# Altium integrated library Components.IntLib: 68 symbols
Pins are listed as number, name and electrical type; pins without a type are passive.

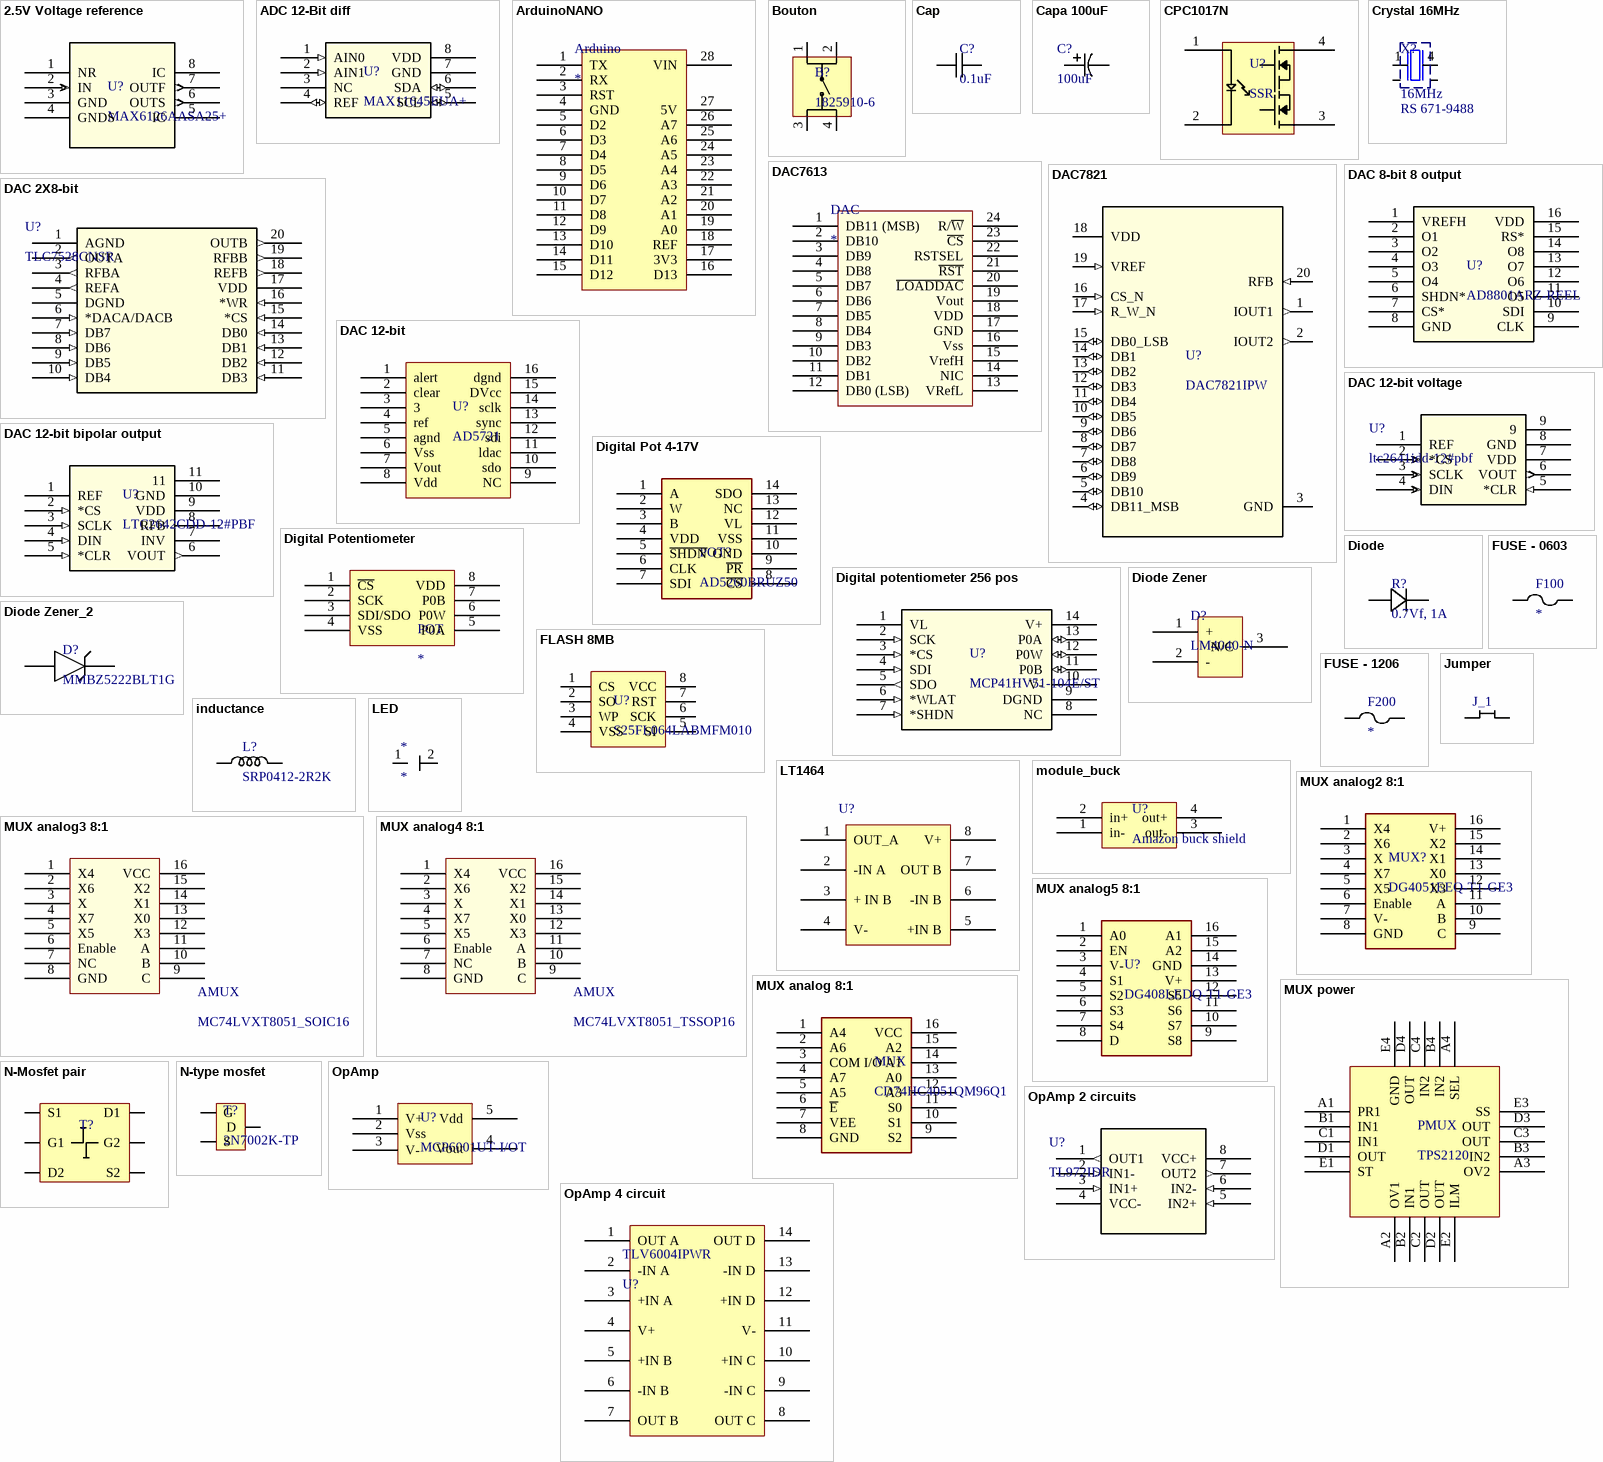
[diagram p0: symbols 2.5V Voltage reference to OpAmp 4 circuit]

## 2.5V Voltage reference
designator U?, comment MAX6126AASA25+
Vendor: Maxim Integrated Products; Built_By: EMA_UL_Team; SourceLibrary: Maxim_2011-10-27; Manufacturer_Part_Number: MAX6126AASA25+; Revision: 3; Copyright: Copyright (C) 2021 Accelerated Designs. All rights reserved; RefDes: RefDes; Type: DEV
footprint SOIC-8
pins: 1 NR, 2 IN (in), 3 GND (power), 4 GNDS (power), 5 IC, 6 OUTS (out), 7 OUTF (out), 8 IC

## ADC 12-Bit diff
designator U?, comment MAX11645EUA+
ADC 12-Bit diff / MAX11645EUA+ / Interface I2C; Vendor: Maxim Integrated Products; Built_By: EMA_UL_Team; SourceLibrary: Maxim_2014-05-21; Manufacturer_Part_Number: MAX11645EUA+; Revision: 2; Copyright: Copyright (C) 2021 Accelerated Designs. All rights reserved; RefDes: RefDes; Type: DEV
footprint TSSOP-8
pins: 1 AIN0 (in), 2 AIN1 (in), 3 NC, 4 REF (io), 5 SCL (io), 6 SDA (io), 7 GND (power), 8 VDD (power)

## ArduinoNANO
designator Arduino
footprint Arduino
footprint Arduino (SIMPLE)
pins: 1 TX, 2 RX, 3 RST, 4 GND, 5 D2, 6 D3, 7 D4, 8 D5, 9 D6, 10 D7, 11 D8, 12 D9, 13 D10, 14 D11, 15 D12, 16 D13, 17 3V3, 18 REF, 19 A0, 20 A1, 21 A2, 22 A3, 23 A4, 24 A5, 25 A6, 26 A7, 27 5V, 28 VIN

## Bouton
designator B?, comment 1825910-6
Tactile Bouton / 1825910-6
footprint Bouton
pins: 1, 2, 3, 4

## Cap
designator C?, comment 0.1uF
footprint 0603-W (0603 - 1608)
footprint 1206
footprint 0805
pins: 1 Vin, 2 Vin

## Capa 100uF
designator C?, comment 100uF
100uF / Part number: 493-2203-1-ND; Manufacturer_Part_Number: UWT1V101MCL1GS; Vendor: Nichicon; Built_By: EMA_UL_Team; SourceLibrary: Nichicon_2011-10-21; Type: DEV; Copyright: Copyright (C) 2018 Accelerated Designs. All rights reserved; RefDes: RefDes
footprint 6.3x7.7_capa_smt
footprint 8mm diametre cap
pins: 1, 2

## CPC1017N
designator U?, comment SSR
Solid State SPST-NO _1 Form A_ 4-SOP _0.150, 3.81mm_; MP: CPC1017N; MF: IXYS Integrated; Package: SOP-4 IXYS; SnapEDA_Link: https://www.snapeda.com/parts/CPC1017N/IXYS%20Integrated%20Circuits%20Division/view-part/345722/?ref=snap; Value: *; Availability: Unavailable; Price: None
footprint 4-pin SOP
pins: 1 +CONTROL, 2 -CONTROL, 3 LOAD1, 4 LOAD2

## Crystal 16MHz
designator X?, comment value 16MHz  RS: RS 671-9488  (hidden comment: AB-16.000MALE-T)
AB-16.000MALE-T / # digikey : 887-1708-1-ND / 12pF; Manufacturer: Aker; Manufacturer Part #: C5S-16.000-12-3030-X; Frequency Stability: +/-30ppm; Creator: R Kanjee; Supplier: RS; RS Stock Nr.: 671-9488; HelpURL: http://za.rs-online.com/web/p/crystal-units/6719488/; Package: 3.2x5mm SMD; Load Capacitance: 12pF
footprint 4-SMD no lead 5mm-3.2mm
pins: 1, 2 Gnd (power), 3 Gnd (power), 4

## DAC7613
designator DAC
12-bit DAC Mid speed / 5V ouput / Voltage buffered / SPI Interface
footprint SSOP (DB) 24
pins: 1 DB11 (MSB), 2 DB10, 3 DB9, 4 DB8, 5 DB7, 6 DB6, 7 DB5, 8 DB4, 9 DB3, 10 DB2, 11 DB1, 12 DB0 (LSB), 13 VRefL, 14 NIC, 15 VrefH, 16 Vss, 17 GND, 18 VDD, 19 Vout, 20 ~{LOADDAC}, 21 ~{RST}, 22 RSTSEL, 23 ~{CS}, 24 R/~{W}

## DAC7821
designator U?, comment DAC7821IPW
12-bit high-speed DAC / DAC7821IPW / Parallel interface / Current - Unbuffered; PartNumber: DAC7821IPWR; Manufacturer: Texas Instruments; CompType: IC; PIN_COUNT: 20; Alternate_PartNumber: DAC7821IPW; PackageReference: PW0020A; MountType: SMT; RoHS: Y; RefDes: RefDes; Type: DEV; Value: Value; Copyright: Copyright (C) 2021 Accelerated Designs. All rights reserved
footprint TSSOP-20
pins: 1 IOUT1 (out), 2 IOUT2 (out), 3 GND (power), 4 DB11_MSB (io), 5 DB10 (io), 6 DB9 (io), 7 DB8 (io), 8 DB7 (io), 9 DB6 (io), 10 DB5 (io), 11 DB4 (io), 12 DB3 (io), 13 DB2 (io), 14 DB1 (io), 15 DB0_LSB (io), 16 CS_N (in), 17 R_W_N (in), 18 VDD (power), 19 VREF (in), 20 RFB (in)

## DAC 2X8-bit
designator U?, comment TLC7528CNSR
8-Bit, 0.1 us Dual MDAC, Parallel Input, Fast Control Signalling for DSP, Easy Micro I/F; Manufacturer: Texas Instruments; INDUSTRY_STD_PKG_TYPE: SO; FAMILY_NAME: PRECISION DAC (=<10MSPS); PIN_COUNT: 20; PACKAGE_DESIGNATOR: NS; Datasheet_URL: http://www.ti.com/lit/gpn/TLC7528; GENERIC_PART_NUMBER: TLC7528; Copyright: Copyright (C) 2018 Accelerated Designs. All rights reserved; RefDes: RefDes; Type: DEV
footprint SOIC-20
pins: 1 AGND (power), 2 OUTA (out), 3 RFBA (out), 4 REFA (out), 5 DGND (power), 6 *DACA/DACB (in), 7 DB7 (in), 8 DB6 (in), 9 DB5 (in), 10 DB4 (in), 11 DB3 (in), 12 DB2 (in), 13 DB1 (in), 14 DB0 (in), 15 *CS (in), 16 *WR (in), 17 VDD (power), 18 REFB (out), 19 RFBB (out), 20 OUTB (out)

## DAC 8-bit 8 output
designator U?, comment AD8801ARZ-REEL
AD8801ARZ-REEL / 8-bit high-speed Voltage DAC / 8 output; Built_By: EMA_UL_Team; Vendor: Analog Devices Inc; SourceLibrary: Analog_2012-01-01_6; Manufacturer_Part_Number: AD8801ARZ-REEL; Copyright: Copyright (C) 2021 Accelerated Designs. All rights reserved; RefDes: RefDes; Type: DEV
footprint SOIC-16
pins: 1 VREFH, 2 O1, 3 O2, 4 O3, 5 O4, 6 SHDN*, 7 CS*, 8 GND, 9 CLK, 10 SDI, 11 O5, 12 O6, 13 O7, 14 O8, 15 RS*, 16 VDD (power)

## DAC 12-bit
designator U?, comment AD5721
AD5721BRUZ / 12 bit DAC mid speed / up to 20V output / Voltage buffered
footprint TSSOP-16
pins: 1 alert, 2 clear, 3, 4 ref, 5 agnd, 6 Vss, 7 Vout, 8 Vdd, 9 NC, 10 sdo, 11 ldac, 12 sdi, 13 sync, 14 sclk, 15 DVcc, 16 dgnd

## DAC 12-bit bipolar output
designator U?, comment LTC2642CDD-12#PBF
DAC voltage 12-bit high speed / LTC2642CDD-12#PBF; Vendor: Linear Technology; Built_By: EMA_UL_Team; SourceLibrary: LinearTech_2016_03_08; Manufacturer_Part_Number: LTC2642CDD-12#PBF; Copyright: Copyright (C) 2021 Accelerated Designs. All rights reserved; RefDes: RefDes; Type: DEV
footprint DFN-10
pins: 1 REF (power), 2 *CS (in), 3 SCLK (in), 4 DIN (in), 5 *CLR (in), 6 VOUT (out), 7 INV, 8 RFB, 9 VDD (power), 10 GND (power), 11

## DAC 12-bit voltage
designator U?, comment ltc2641idd-12#pbf
DAC voltage 12-bit high speed / Ltc2641idd-12#pbf; Vendor: Linear Technology; Built_By: EMA_UL_Team; SourceLibrary: LinearTech_2016_03_08; Manufacturer_Part_Number: ltc2641idd-12#pbf; Copyright: Copyright (C) 2021 Accelerated Designs. All rights reserved; RefDes: RefDes; Type: DEV
footprint DFN-8
pins: 1 REF (power), 2 *CS (in), 3 SCLK (in), 4 DIN (in), 5 *CLR (in), 6 VOUT (out), 7 VDD (power), 8 GND (power), 9

## Digital Pot 4-17V
designator POT?, comment AD5260BRUZ50
AD5260BRUZ50 - Digital potentiometer, 50kOhms,  256 taps, 4-17V
footprint TSSOP-14
pins: 1 A, 2 W, 3 B, 4 VDD, 5 ~{SHDN}, 6 CLK, 7 SDI, 8 ~{CS}, 9 ~{PR}, 10 GND, 11 VSS, 12 VL, 13 NC, 14 SDO

## Digital Potentiometer
designator POT
MCP4132T-503E/SN - Digital potentiometer with SPI control, 75 to 50k
footprint SOIC-8
pins: 1 ~{CS}, 2 SCK, 3 SDI/SDO, 4 VSS, 5 P0A, 6 P0W, 7 P0B, 8 VDD

## Digital potentiometer 256 pos
designator U?, comment MCP41HV51-104E/ST
Potentiometre programmable / Digital potentiometer / 256 taps / version 100K = MCP41HV51-104E/ST / version 50K = MCP41HV51T-503E/ST; Mfr_Name: Microchip; Copyright: Copyright (C) 2021 Ultra Librarian. All rights reserved.; Manufacturer_Part_Number: MCP41HV51-104E/ST; Digi-Key_Part_Number_1: MCP41HV51-104E/ST-ND; RefDes: RefDes; Type: DEV
footprint TSSOP-14
pins: 1 VL (power), 2 SCK (in), 3 *CS (in), 4 SDI (in), 5 SDO (out), 6 *WLAT (in), 7 *SHDN (in), 8 NC, 9 DGND (power), 10 V- (power), 11 P0B (io), 12 P0W (io), 13 P0A (io), 14 V+ (power)

## Diode
designator R?, comment 0.7Vf, 1A
General purpose diode / SS15E-TP
footprint SMAE (Schottky Rectifier Diode Solder Pad Layout)
pins: 1, 2

## Diode Zener
designator D?, comment LM4040-N
Precision shunt voltage reference
footprint SOT-23 (DBZ) 3
pins: 1 +, 2 -, 3 N/C

## Diode Zener_2
designator D?, comment MMBZ5222BLT1G
2.5V nominal / MMBZ5222BLT1GOSCT-ND
footprint SOT-23 (DBZ) 3
pins: 1, 3

## FLASH 8MB
designator U?, comment S25FL064LABMFM010
#pièce : S25FL064LABMFM010 / #digikey : 428-4094-ND
footprint SOIC-8
pins: 1 CS, 2 SO, 3 WP, 4 VSS, 5 SI, 6 SCK, 7 RST, 8 VCC

## FUSE - 0603
designator F100
footprint 0603-W - F (0603 - 1608)
pins: 1 Vin, 2 Vout

## FUSE - 1206
designator F200
footprint 1206-W - F - duplicate (0603 - 1608)
pins: 1 Vin, 2 Vout

## inductance
designator L?, comment SRP0412-2R2K
part number SRP0412-2R2K / 2.2uH
footprint 4.1X4.2mm_inductor
footprint 9.5X8.5mm_inductor
footprint Vertical cylinder 5mm (Thru-Hole; 3 Leads)
pins: 1, 2

## Jumper
designator J_1  (value not drawn)
footprint 0603-N (0603mil - 1608mm)
pins: 1 Vin, 2 Vin

## LED
designator *
footprint LED
pins: 1 Vin, 2 Vout

## LT1464
designator U?, comment OA  (value not drawn)
SOIC-8
footprint LT1464 (SOIC-8)
pins: 1 OUT_A, 2 -IN A, 3 + IN B, 4 V-, 5 +IN B, 6 -IN B, 7 OUT B, 8 V+

## module_buck
designator U?, comment Amazon buck shield
footprint Shield_buck_converter
pins: 1 in-, 2 in+, 3 out-, 4 out+

## MUX analog2 8:1
designator MUX?, comment DG4051EEQ-T1-GE3
DG4051EEQ-T1-GE3 - Analog mux 8:1, 3-16V, On-state resistance 78Ohms
footprint TSSOP-16
pins: 1 X4, 2 X6, 3 X, 4 X7, 5 X5, 6 Enable, 7 V-, 8 GND, 9 C, 10 B, 11 A, 12 X3, 13 X0, 14 X1, 15 X2, 16 V+

## MUX analog3 8:1
designator AMUX, comment MC74LVXT8051_SOIC16
MC74LVXT8051 - AnalogMUX
footprint SOIC-16
pins: 1 X4, 2 X6, 3 X, 4 X7, 5 X5, 6 Enable, 7 NC, 8 GND, 9 C, 10 B, 11 A, 12 X3, 13 X0, 14 X1, 15 X2, 16 VCC

## MUX analog4 8:1
designator AMUX, comment MC74LVXT8051_TSSOP16
MC74LVXT8051 - AnalogMUX
footprint TSSOP-16
pins: 1 X4, 2 X6, 3 X, 4 X7, 5 X5, 6 Enable, 7 NC, 8 GND, 9 C, 10 B, 11 A, 12 X3, 13 X0, 14 X1, 15 X2, 16 VCC

## MUX analog5 8:1
designator U?, comment DG408LEDQ-T1-GE3
DG408LEDQ-T1-GE3 - Analog mux 8:1, 3-16V, On-state resistance 23Ohms
footprint TSSOP-16
pins: 1 A0, 2 EN, 3 V-, 4 S1, 5 S2, 6 S3, 7 S4, 8 D, 9 S8, 10 S7, 11 S6, 12 S5, 13 V+, 14 GND, 15 A2, 16 A1

## MUX analog 8:1
designator MUX, comment CD74HC4051QM96Q1
CD74HC4051QM96Q1 - 8:1 Mux/Demux, 2~6V voltage supply, 25mA through pins, 16-SOIC
footprint SOIC-16
pins: 1 A4, 2 A6, 3 COM I/O, 4 A7, 5 A5, 6 ~{E}, 7 VEE, 8 GND, 9 S2, 10 S1, 11 S0, 12 A3, 13 A0, 14 A1, 15 A2, 16 VCC

## MUX power
designator PMUX, comment TPS2120
Power MUX, 3A max
footprint TPS2120_BGA (PowerMux_3Amax_BGA)
pins: A1 PR1, A2 OV1, A3 OV2, A4 SEL, B1 IN1, B2 IN1, B3 IN2, B4 IN2, C1 IN1, C2 OUT, C3 OUT, C4 IN2, D1 OUT, D2 OUT, D3 OUT, D4 OUT, E1 ST, E2 ILM, E3 SS, E4 GND

## N-Mosfet pair
designator T?, comment SSM6N7002  (value not drawn)
N-Mosfet pair
footprint TSSOP-6 (N-Mosfet pair)
pins: 1 S1, 2 G1, 3 D2, 4 S2, 5 G2, 6 D1

## N-type mosfet
designator T?, comment 2N7002K-TP
N-Channel mosfet / 2N7002K-TP
footprint SOT-23 (DBZ) 3
pins: 1 G, 2 S, 3 D

## OpAmp
designator U?, comment MCP6001UT-I/OT
1 circuit OpAmp / MCP6001UT-I/OT
footprint SOT-23-5
pins: 1 V+, 2 Vss, 3 V-, 4 Vout, 5 Vdd

## OpAmp 2 circuits
designator U?, comment TL972IDR
Output Rail-to-Rail Very-Low-Noise Operational Amplifier; GENERIC_PART_NUMBER: TL972; Vendor: Texas Instruments; PACKAGE_DESIGNATOR: D; PIN_COUNT: 8; FAMILY_NAME: STANDARD LINEAR AMPLIFIER; INDUSTRY_STD_PKG_TYPE: SOIC; Manufacturer_Part_Number: TL972IDR; Datasheet_URL: http://www.ti.com/lit/gpn/TL972; Manufacturer: Texas Instruments; Copyright: Copyright (C) 2018 Accelerated Designs. All rights reserved; RefDes: RefDes; Type: DEV
footprint SOIC-8
pins: 1 OUT1 (out), 2 IN1- (in), 3 IN1+ (in), 4 VCC- (power), 5 IN2+ (in), 6 IN2- (in), 7 OUT2 (out), 8 VCC+ (power)

## OpAmp 4 circuit
designator TLV6004IPWR, comment U?
OpAmp 4 circuit
footprint TSSOP-14
pins: 1 OUT A, 2 -IN A, 3 +IN A, 4 V+, 5 +IN B, 6 -IN B, 7 OUT B, 8 OUT C, 9 -IN C, 10 +IN C, 11 V-, 12 +IN D, 13 -IN D, 14 OUT D

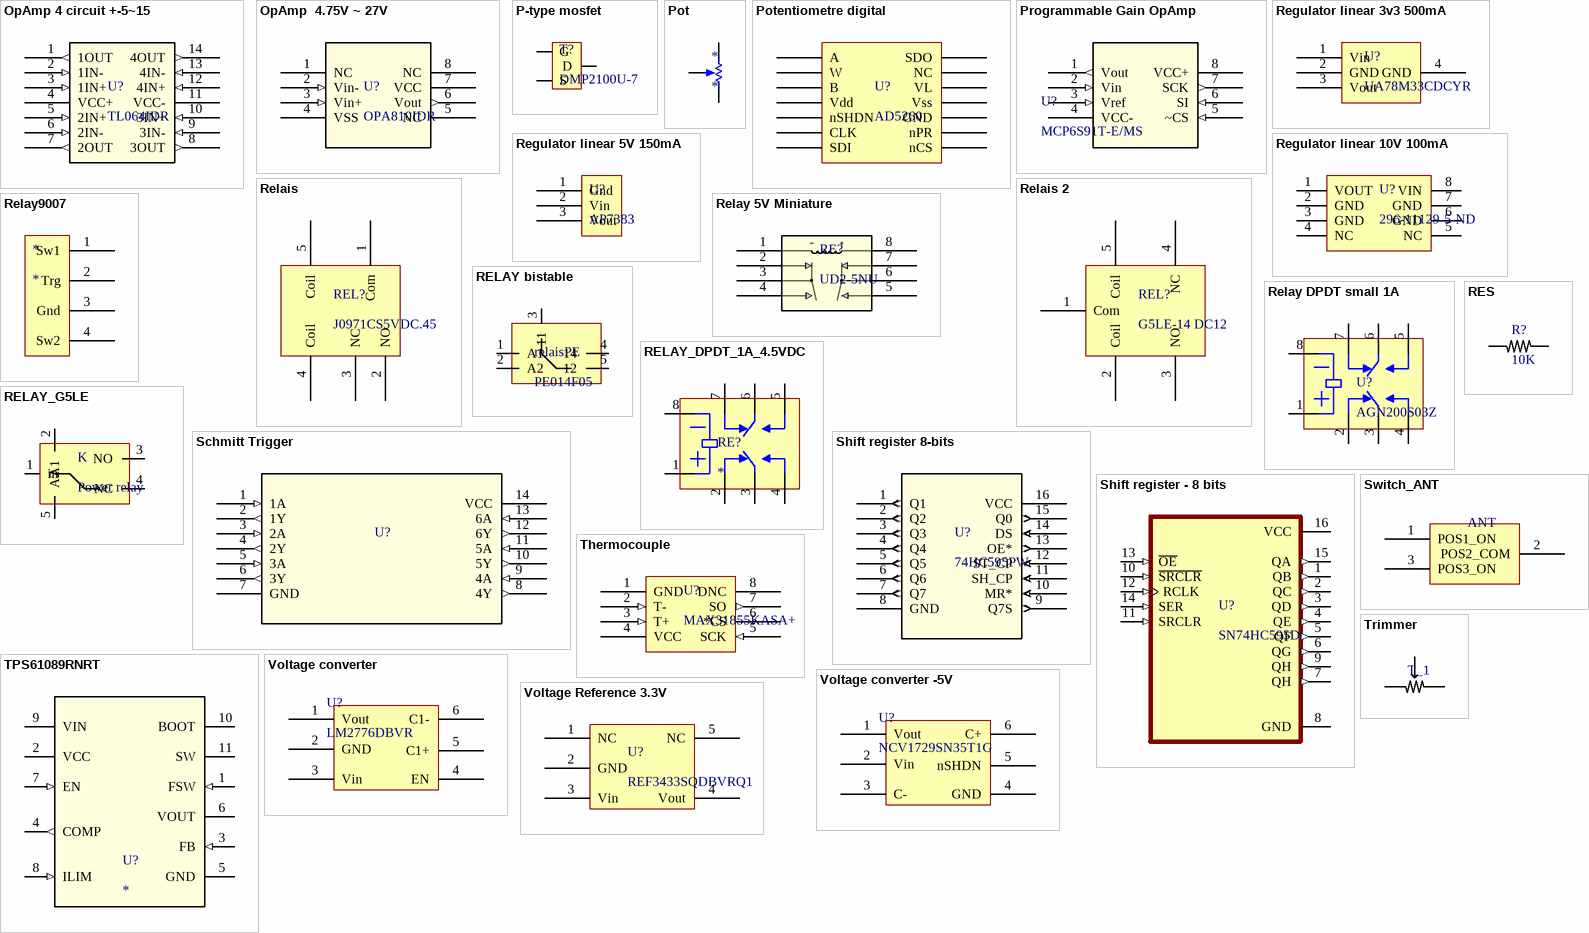
[diagram p1: symbols OpAmp 4 circuit +-5~15 to Voltage Reference 3.3V]

## OpAmp 4 circuit +-5~15
designator U?, comment TL064IDR
TL064IDR / +-5~15 / Quad Low-Power JFET-Input General-Purpose Operational Amplifier; Manufacturer: Texas Instruments; GENERIC_PART_NUMBER: TL064; INDUSTRY_STD_PKG_TYPE: SOIC; FAMILY_NAME: STANDARD LINEAR AMPLIFIER; PIN_COUNT: 14; PACKAGE_DESIGNATOR: D; Datasheet_URL: http://www.ti.com/lit/gpn/TL064; Copyright: Copyright (C) 2021 Accelerated Designs. All rights reserved; RefDes: RefDes; Type: DEV
footprint SOIC-14
pins: 1 1OUT (out), 2 1IN- (in), 3 1IN+ (in), 4 VCC+ (power), 5 2IN+ (in), 6 2IN- (in), 7 2OUT (out), 8 3OUT (out), 9 3IN- (in), 10 3IN+ (in), 11 VCC- (power), 12 4IN+ (in), 13 4IN- (in), 14 4OUT (out)

## OpAmp  4.75V ~ 27V
designator U?, comment OPA810IDR
OPA810IDR / OpAmp Rail-to-Rail / 4.75V ~ 27V supply
footprint SOIC-8
pins: 1 NC, 2 Vin- (in), 3 Vin+ (in), 4 VSS (power), 5 NC, 6 Vout (out), 7 VCC (power), 8 NC

## P-type mosfet
designator T?, comment DMP2100U-7
P-Channel mosfet / DMP2100U-7
footprint SOT-23 (DBZ) 3
pins: 1 G, 2 S, 3 D

## Pot
designator *
footprint 3-Pos_Rect_Pot (Thru-Hole; 3 Leads)
pins: 1, 2, 3

## Potentiometre digital
designator U?, comment AD5260
AD5260BRUZ50
footprint TSSOP-14
pins: 1 A, 2 W, 3 B, 4 Vdd, 5 nSHDN, 6 CLK, 7 SDI, 8 nCS, 9 nPR, 10 GND, 11 Vss, 12 VL, 13 NC, 14 SDO

## Programmable Gain OpAmp
designator U?, comment MCP6S91T-E/MS
Programmable gain OpAmp / MCP6S91T-E/MS
footprint TSSOP-8
pins: 1 Vout (out), 2 Vin (in), 3 Vref (in), 4 VCC- (power), 5 ~CS (in), 6 SI (in), 7 SCK (out), 8 VCC+ (power)

## Regulator linear 3v3 500mA
designator U?, comment UA78M33CDCYR
3.3V lin regulator / 500mA / UA78M33CDCYR
footprint SOT223-4
pins: 1 Vin, 2 GND, 3 Vout, 4 GND

## Regulator linear 5V 150mA
designator U?, comment AP7383
5V lin Regulator / 150mA / AP7383
footprint sot89-3
pins: 1 Gnd, 2 Vin, 3 Vout

## Regulator linear 10V 100mA
designator U?, comment 296-11129-5-ND
10V regulator / UA78L10ACD / 296-11129-5-ND
footprint SOIC-8
pins: 1 VOUT, 2 GND, 3 GND, 4 NC, 5 NC, 6 GND, 7 GND, 8 VIN

## Relais
designator REL?, comment J0971CS5VDC.45
J0971CS5VDC.45 / Relais 10A, coil 5V 90mA
footprint J0971CS5VDC.45 (5VDC)
pins: 1 Com, 2 NO, 3 NC, 4 Coil, 5 Coil

## Relais 2
designator REL?, comment G5LE-14 DC12
G5LE-14 DC12 / G5LE-14 DC5 / Relais 10A
footprint G5LE-14
pins: 1 Com, 2 Coil, 3 NO, 4 NC, 5 Coil

## Relay9007
designator *
footprint Relay
footprint COTO_9007
pins: 1 Sw1, 2 Trg, 3 Gnd, 4 Sw2

## Relay 5V Miniature
designator RE?, comment UD2-5NU
Relay 5V Miniature / UD2-5NU; Mfr_Name: Kemet; Copyright: Copyright (C) 2021 Ultra Librarian. All rights reserved.; Manufacturer_Part_Number: UD2-5NU; Digi-Key_Part_Number_1: UD2-5NU-ND; RefDes: RefDes; Type: DEV
footprint UD2_NU
pins: 1, 2, 3, 4, 5, 6, 7, 8

## RELAY bistable
designator relaisPE, comment PE014F05
Relais bistable
footprint PE_bistable
pins: 1 A1, 2 A2, 3 11, 4 14, 5 12

## Relay DPDT small 1A
designator U?, comment AGN200S03Z
Relay DPDT small 1A / AGN200S03Z; Mfr_Name: Panasonic; Copyright: Copyright (C) 2021 Ultra Librarian. All rights reserved.; Manufacturer_Part_Number: AGN200S03Z; Digi-Key_Part_Number_1: 255-2087-2-ND; Digi-Key_Part_Number_2: 255-2087-2-NDL; RefDes: RefDes; Type: DEV
footprint RELAY_AGN_S_PAN
pins: 1 COIL2, 2 NO, 3 COM, 4 NC, 5 NC, 6 COM, 7 NO, 8 COIL1

## RELAY_DPDT_1A_4.5VDC
designator RE?
AGN210A4HZ - Surface mount relay 10.6x5.7mm, 1A 4,5VDC, coil current 22mA
footprint RELAY_DPDT_1A_4.5VDC (AGN210A4HZ - Surface Mount, type A)
footprint RELAY_DPDT_1A_4.5VDC (AGN210A4HZ - Surface Mount, type A)
pins: 1 COIL2, 2 NO, 3 COM, 4 NC, 5 NC, 6 COM, 7 NO, 8 COIL1

## RELAY_G5LE
designator K, comment Power relay
G5LE-14 DC5
footprint G5LE_relais (Power relay)
pins: 1 in, 2 A1, 3 NO, 4 NC, 5 A2

## RES
designator R?, comment 10K
footprint 0603-W (0603 - 1608)
footprint 0805
footprint TO-220-2
pins: 1 Vin, 2 Vout

## Schmitt Trigger
designator U?, comment Part Number: SN7414DR  (value not drawn)
Schmitt Trigger / SN7414DR; Manufacturer: Texas Instruments; Built_By: EMA_UL_Team; Vendor: Texas Instruments; Manufacturer_Part_Number: SN7414DR; Copyright: Copyright (C) 2018 Accelerated Designs. All rights reserved; RefDes: RefDes; Type: DEV; Value: Value
footprint SOIC-14
pins: 1 1A (in), 2 1Y (out), 3 2A (in), 4 2Y (out), 5 3A (in), 6 3Y (out), 7 GND (power), 8 4Y (out), 9 4A (in), 10 5Y (out), 11 5A (in), 12 6Y (out), 13 6A (in), 14 VCC (power)

## Shift register 8-bits
designator U?, comment 74HC595PW
74HC595PW / 3-state output registers / TSSOP16; Mfr_Name: NXP; Copyright: Copyright (C) 2021 Ultra Librarian. All rights reserved.; Manufacturer_Part_Number: 74HC595PW; Digi-Key_Part_Number_1: 1727-6439-ND; Digi-Key_Part_Number_2: 568-2263-1-ND; Digi-Key_Part_Number_3: 568-2263-2-ND; Digi-Key_Part_Number_4: 568-2263-6-ND; Digi-Key_Part_Number_5: 568-8291-5-ND; RefDes: RefDes; Type: DEV
footprint TSSOP-16
pins: 1 Q1 (out), 2 Q2 (out), 3 Q3 (out), 4 Q4 (out), 5 Q5 (out), 6 Q6 (out), 7 Q7 (out), 8 GND (power), 9 Q7S (out), 10 MR* (in), 11 SH_CP (in), 12 ST_CP (in), 13 OE* (out), 14 DS (in), 15 Q0 (out), 16 VCC (power)

## Shift register - 8 bits
designator U?, comment SN74HC595D
8-bit shift registers with 3-state output registers 16-SOIC -40 to 85; MF: Texas Instruments; Value: *; Price: None; Purchase-URL: https://pricing.snapeda.com/search/part/SN74HC595D/?ref=eda; Package: SOIC-16 Texas Instruments; MP: SN74HC595D; Availability: Good; Check_prices: https://www.snapeda.com/parts/SN74HC595D/Texas%20Instruments/view-part/32510/?ref=eda; SnapEDA_Link: https://www.snapeda.com/parts/SN74HC595D/Texas%20Instruments/view-part/32510/?ref=snap
footprint SOIC-16
pins: 1 QB (out), 2 QC (out), 3 QD (out), 4 QE (out), 5 QF (out), 6 QG (out), 7 QH (out), 8 GND (power), 9 QH (out), 10 ~{SRCLR} (in), 11 SRCLR (in), 12 RCLK (in), 13 ~{OE} (in), 14 SER (in), 15 QA (out), 16 VCC (power)

## Switch_ANT
designator ANT  (value not drawn)
ANT11SF1CQE
footprint Switch_terminalOption_C2 (Le 2e modele de la switch aka le bon)
footprint Switch_terminalOption_C2 (Le 2e modele de la switch aka le bon)
pins: 1 POS1_ON, 2 POS2_COM, 3 POS3_ON

## Thermocouple
designator U?, comment MAX31855KASA+
# piece : MAX31855KASA+ / #digikey : / MAX31855KASA+-ND; Vendor: Maxim Integrated Products; Built_By: EMA_UL_Team; SourceLibrary: Maxim_2014-05-21; Manufacturer_Part_Number: MAX31855KASA+; Copyright: Copyright (C) 2018 Accelerated Designs. All rights reserved; RefDes: RefDes; Type: DEV
footprint SOIC-8
pins: 1 GND (power), 2 T- (in), 3 T+ (in), 4 VCC (power), 5 SCK (in), 6 *CS, 7 SO (out), 8 DNC

## TPS61089RNRT
designator U?
No Description Available; PartNumber: TPS61089RNRR; Manufacturer: Texas Instruments; RefDes: RefDes; Type: DEV; Value: Value; Copyright: Copyright (C) 2018 Accelerated Designs. All rights reserved
footprint RNR0011A
pins: 1 FSW (in), 2 VCC (power), 3 FB (in), 4 COMP (out), 5 GND (power), 6 VOUT (power), 7 EN (in), 8 ILIM (in), 9 VIN (power), 10 BOOT (power), 11 SW (power)

## Trimmer
designator T_1  (value not drawn)
footprint Trimmer (surface_mount)
pins: 1, 2, 3

## Voltage converter
designator U?, comment LM2776DBVR
footprint sot-23-6
pins: 1 Vout, 2 GND, 3 Vin, 4 EN, 5 C1+, 6 C1-

## Voltage converter -5V
designator U?, comment NCV1729SN35T1G
footprint sot-23-6
pins: 1 Vout, 2 Vin, 3 C-, 4 GND, 5 nSHDN, 6 C+

## Voltage Reference 3.3V
designator U?, comment REF3433SQDBVRQ1
footprint SOT-23-5
pins: 1 NC, 2 GND, 3 Vin, 4 Vout, 5 NC